# Altium schematic symbol library SOM.SchLib: 10 symbols
Pins are listed as number, name and electrical type; pins without a type are passive.

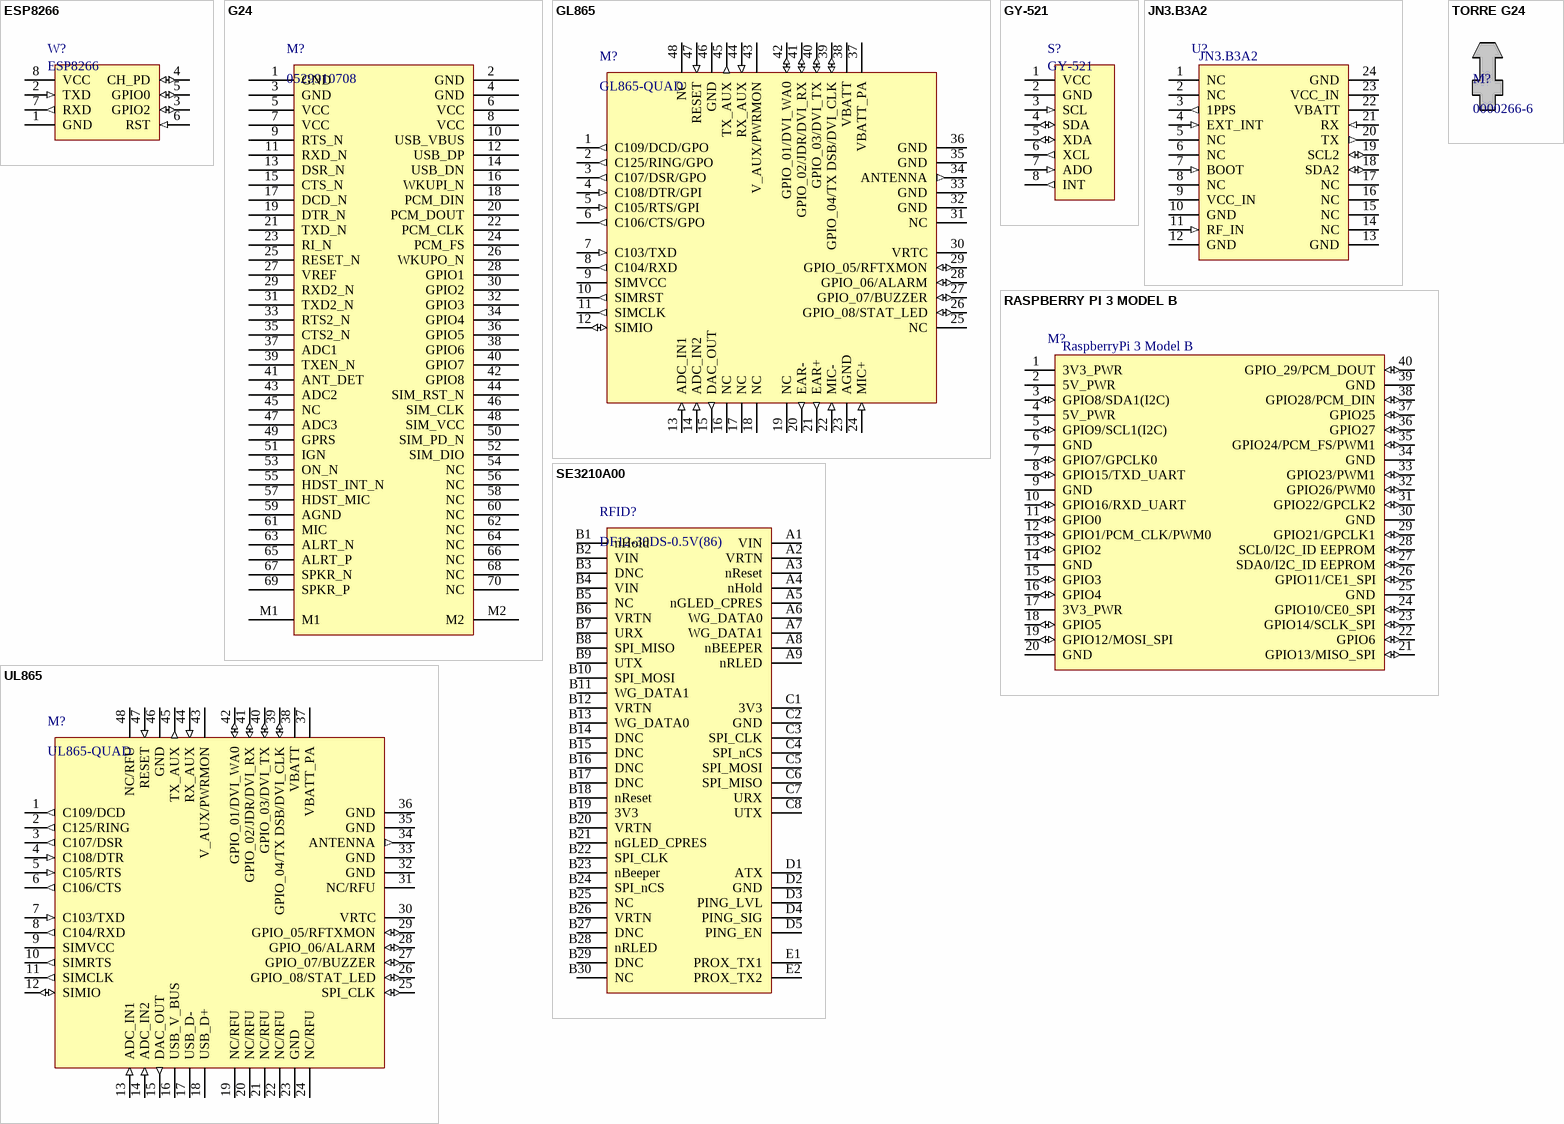
[diagram p0: symbols ESP8266 to UL865]

## ESP8266
designator W?
WiFi Module; Manufacturer: Espressif; Mount Type: PTH; Value: ESP8266; Supplier 1: Digi-Key; Supplier Part Number 1: 1597-1145-ND
footprint ESP8206 (WiFi Module)
pins: 1 GND (power), 2 TXD (in), 3 GPIO2 (io), 4 CH_PD (io), 5 GPIO0 (io), 6 RST (in), 7 RXD (out), 8 VCC (power)

## G24
designator M?, comment 0529910708
MODEM TELIT GSM - CONN RECEPT 70POS 3MM SMD .5MM; Manufacturer: Molex Inc; Mount Type: SMD; Supplier Part Number 1: Itech; Supplier 1: *
footprint G24
pins: 1 GND, 2 GND, 3 GND, 4 GND, 5 VCC, 6 VCC, 7 VCC, 8 VCC, 9 RTS_N, 10 USB_VBUS, 11 RXD_N, 12 USB_DP, 13 DSR_N, 14 USB_DN, 15 CTS_N, 16 WKUPI_N, 17 DCD_N, 18 PCM_DIN, 19 DTR_N, 20 PCM_DOUT, 21 TXD_N, 22 PCM_CLK, 23 RI_N, 24 PCM_FS, 25 RESET_N, 26 WKUPO_N, 27 VREF, 28 GPIO1, 29 RXD2_N, 30 GPIO2, 31 TXD2_N, 32 GPIO3, 33 RTS2_N, 34 GPIO4, 35 CTS2_N, 36 GPIO5, 37 ADC1, 38 GPIO6, 39 TXEN_N, 40 GPIO7, 41 ANT_DET, 42 GPIO8, 43 ADC2, 44 SIM_RST_N, 45 NC, 46 SIM_CLK, 47 ADC3, 48 SIM_VCC, 49 GPRS, 50 SIM_PD_N, 51 IGN, 52 SIM_DIO, 53 ON_N, 54 NC, 55 HDST_INT_N, 56 NC, 57 HDST_MIC, 58 NC, 59 AGND, 60 NC, 61 MIC, 62 NC, 63 ALRT_N, 64 NC, 65 ALRT_P, 66 NC, 67 SPKR_N, 68 NC, 69 SPKR_P, 70 NC, M1, M2

## GL865
designator M?, comment GL865-QUAD
MODEM TELIT GSM; Mount Type: SMD; Manufacturer: Telit; Supplier 1: Itech; Supplier Part Number 1: *
footprint GL865
footprint GL865
pins: 1 C109/DCD/GPO (out), 2 C125/RING/GPO (out), 3 C107/DSR/GPO (out), 4 C108/DTR/GPI (in), 5 C105/RTS/GPI (in), 6 C106/CTS/GPO (out), 7 C103/TXD (in), 8 C104/RXD (out), 9 SIMVCC, 10 SIMRST (out), 11 SIMCLK (out), 12 SIMIO (io), 13 ADC_IN1 (in), 14 ADC_IN2 (in), 15 DAC_OUT (out), 16 NC, 17 NC, 18 NC, 19 NC, 20 EAR- (out), 21 EAR+ (out), 22 MIC- (in), 23 AGND (power), 24 MIC+ (in), 25 NC, 26 GPIO_08/STAT_LED (io), 27 GPIO_07/BUZZER (io), 28 GPIO_06/ALARM (io), 29 GPIO_05/RFTXMON (io), 30 VRTC (power), 31 NC, 32 GND (power), 33 GND (power), 34 ANTENNA (out), 35 GND (power), 36 GND (power), 37 VBATT_PA (power), 38 VBATT (power), 39 GPIO_04/TX DSB/DVI_CLK (io), 40 GPIO_03/DVI_TX (io), 41 GPIO_02/JDR/DVI_RX (io), 42 GPIO_01/DVI_WA0 (io), 43 V_AUX/PWRMON, 44 RX_AUX (in), 45 TX_AUX (out), 46 GND (power), 47 RESET (in), 48 NC

## GY-521
designator S?
Accelerometer Gyroscope Module; Manufacturer: *; Mount Type: PTH; Value: GY-521
footprint GY-521 (GYRO/ACCEL Module)
pins: 1 VCC (power), 2 GND (power), 3 SCL (in), 4 SDA (io), 5 XDA (io), 6 XCL (out), 7 ADO (in), 8 INT (out)

## JN3.B3A2
designator U?
IC GPS; Manufacturer: Telit; Category: *; Mount Type: SMD; Supplier 1: Itech; Supplier Part Number 1: *; Value: JN3.B3A2
footprint JN3
pins: 1 NC, 2 NC, 3 1PPS (out), 4 EXT_INT (in), 5 NC, 6 NC, 7 BOOT (in), 8 NC, 9 VCC_IN, 10 GND (power), 11 RF_IN (in), 12 GND (power), 13 GND (power), 14 NC, 15 NC, 16 NC, 17 NC, 18 SDA2 (io), 19 SCL2 (io), 20 TX (out), 21 RX (in), 22 VBATT (power), 23 VCC_IN (power), 24 GND (power)

## RASPBERRY PI 3 MODEL B
designator M?, comment value RaspberryPi 3 Model B  (hidden comment: SFH11-PBPC-D20-ST-BK)
40 Position Header Connector 0.100" (2.54mm) Through Hole Gold; Manufacturer: Sullins Connector Solutions; Mount Type: PTH; Supplier 1: Digi-Key; Supplier Part Number 1: S9200-ND
footprint RaspBerry Pi 3 (Connector for RaspBerry Pi 3)
pins: 1 3V3_PWR (power), 2 5V_PWR (power), 3 GPIO8/SDA1(I2C) (io), 4 5V_PWR (power), 5 GPIO9/SCL1(I2C) (io), 6 GND (power), 7 GPIO7/GPCLK0 (io), 8 GPIO15/TXD_UART (io), 9 GND (power), 10 GPIO16/RXD_UART (io), 11 GPIO0 (io), 12 GPIO1/PCM_CLK/PWM0 (io), 13 GPIO2 (io), 14 GND (power), 15 GPIO3 (io), 16 GPIO4 (io), 17 3V3_PWR (power), 18 GPIO5 (io), 19 GPIO12/MOSI_SPI (io), 20 GND (power), 21 GPIO13/MISO_SPI (io), 22 GPIO6 (io), 23 GPIO14/SCLK_SPI (io), 24 GPIO10/CE0_SPI (io), 25 GND (power), 26 GPIO11/CE1_SPI (io), 27 SDA0/I2C_ID EEPROM (io), 28 SCL0/I2C_ID EEPROM (io), 29 GPIO21/GPCLK1 (io), 30 GND (power), 31 GPIO22/GPCLK2 (io), 32 GPIO26/PWM0 (io), 33 GPIO23/PWM1 (io), 34 GND (power), 35 GPIO24/PCM_FS/PWM1 (io), 36 GPIO27 (io), 37 GPIO25 (io), 38 GPIO28/PCM_DIN (io), 39 GND (power), 40 GPIO_29/PCM_DOUT (io)

## SE3210A00
designator RFID?, comment DF12-30DS-0.5V(86)
HID iCLASS SE RFID Reader Module; Manufacturer: Hirose Electric Co Ltd; Value: DF12-30DS-0.5V(86); Supplier 1: Newark; Supplier 2: Farnell; Supplier 3: Digi-Key; Supplier 4: Mouser; Supplier Part Number 1: 34M5524; Supplier Part Number 2: 1324622; Supplier Part Number 3: H5215CT-ND; Supplier Part Number 4: 798-DF1230DS05V48
footprint SE3210A
pins: A1 VIN, A2 VRTN, A3 nReset, A4 nHold, A5 nGLED_CPRES, A6 WG_DATA0, A7 WG_DATA1, A8 nBEEPER, A9 nRLED, B1 nHold, B2 VIN, B3 DNC, B4 VIN, B5 NC, B6 VRTN, B7 URX, B8 SPI_MISO, B9 UTX, B10 SPI_MOSI, B11 WG_DATA1, B12 VRTN, B13 WG_DATA0, B14 DNC, B15 DNC, B16 DNC, B17 DNC, B18 nReset, B19 3V3, B20 VRTN, B21 nGLED_CPRES, B22 SPI_CLK, B23 nBeeper, B24 SPI_nCS, B25 NC, B26 VRTN, B27 DNC, B28 nRLED, B29 DNC, B30 NC, C1 3V3, C2 GND, C3 SPI_CLK, C4 SPI_nCS, C5 SPI_MOSI, C6 SPI_MISO, C7 URX, C8 UTX, D1 ATX, D2 GND, D3 PING_LVL, D4 PING_SIG, D5 PING_EN, E1 PROX_TX1, E2 PROX_TX2

## TORRE G24
designator M?, comment 0000266-6
G24 SPACER; Manufacturer: Itech; Mount Type: PTH; Supplier 1: Itech; Supplier Part Number 1: *

## UL865
designator M?, comment UL865-QUAD
MODEM TELIT GSM 3G; Mount Type: SMD; Manufacturer: Telit; Supplier 1: Itech; Supplier Part Number 1: *
footprint GL865
pins: 1 C109/DCD (out), 2 C125/RING (out), 3 C107/DSR (out), 4 C108/DTR (in), 5 C105/RTS (in), 6 C106/CTS (out), 7 C103/TXD (in), 8 C104/RXD (out), 9 SIMVCC (power), 10 SIMRTS (out), 11 SIMCLK (out), 12 SIMIO (io), 13 ADC_IN1 (in), 14 ADC_IN2 (in), 15 DAC_OUT (out), 16 USB_V_BUS (power), 17 USB_D-, 18 USB_D+, 19 NC/RFU, 20 NC/RFU, 21 NC/RFU, 22 NC/RFU, 23 GND (power), 24 NC/RFU, 25 SPI_CLK (io), 26 GPIO_08/STAT_LED (io), 27 GPIO_07/BUZZER (io), 28 GPIO_06/ALARM (io), 29 GPIO_05/RFTXMON (io), 30 VRTC (power), 31 NC/RFU, 32 GND (power), 33 GND (power), 34 ANTENNA (out), 35 GND (power), 36 GND (power), 37 VBATT_PA (power), 38 VBATT (power), 39 GPIO_04/TX DSB/DVI_CLK (io), 40 GPIO_03/DVI_TX (io), 41 GPIO_02/JDR/DVI_RX (io), 42 GPIO_01/DVI_WA0 (io), 43 V_AUX/PWRMON, 44 RX_AUX (in), 45 TX_AUX (out), 46 GND (power), 47 RESET (in), 48 NC/RFU

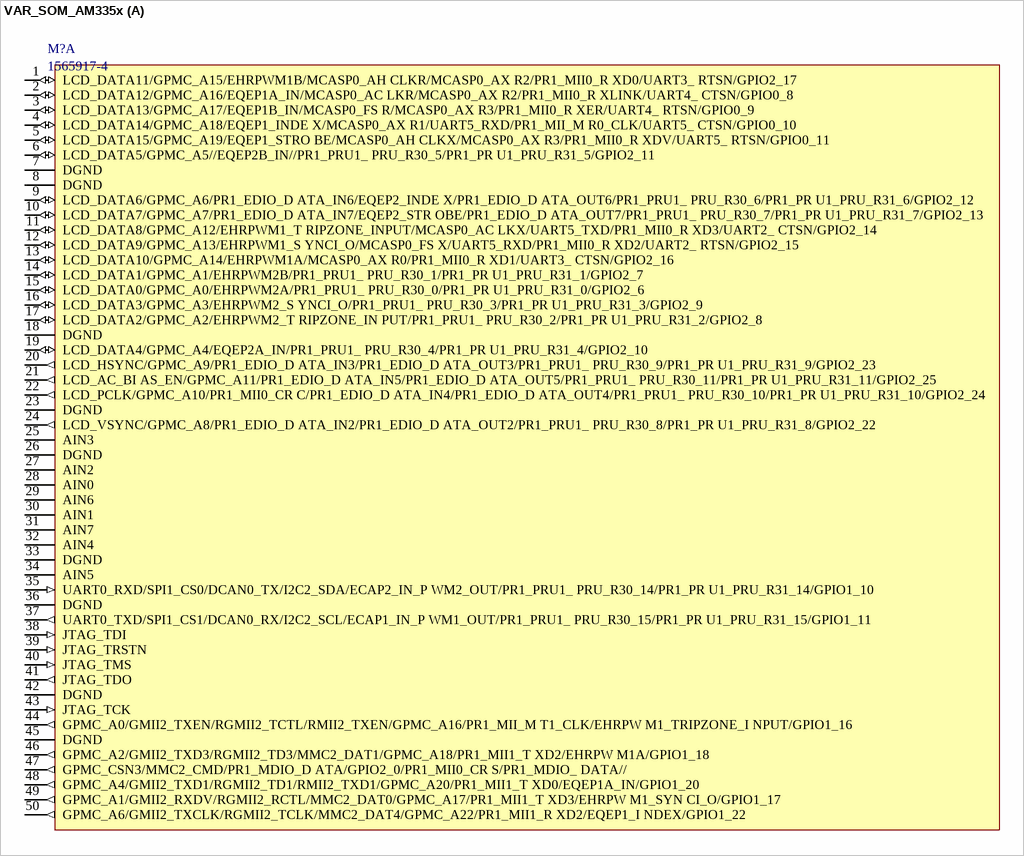
[diagram p1: symbol VAR_SOM_AM335x]

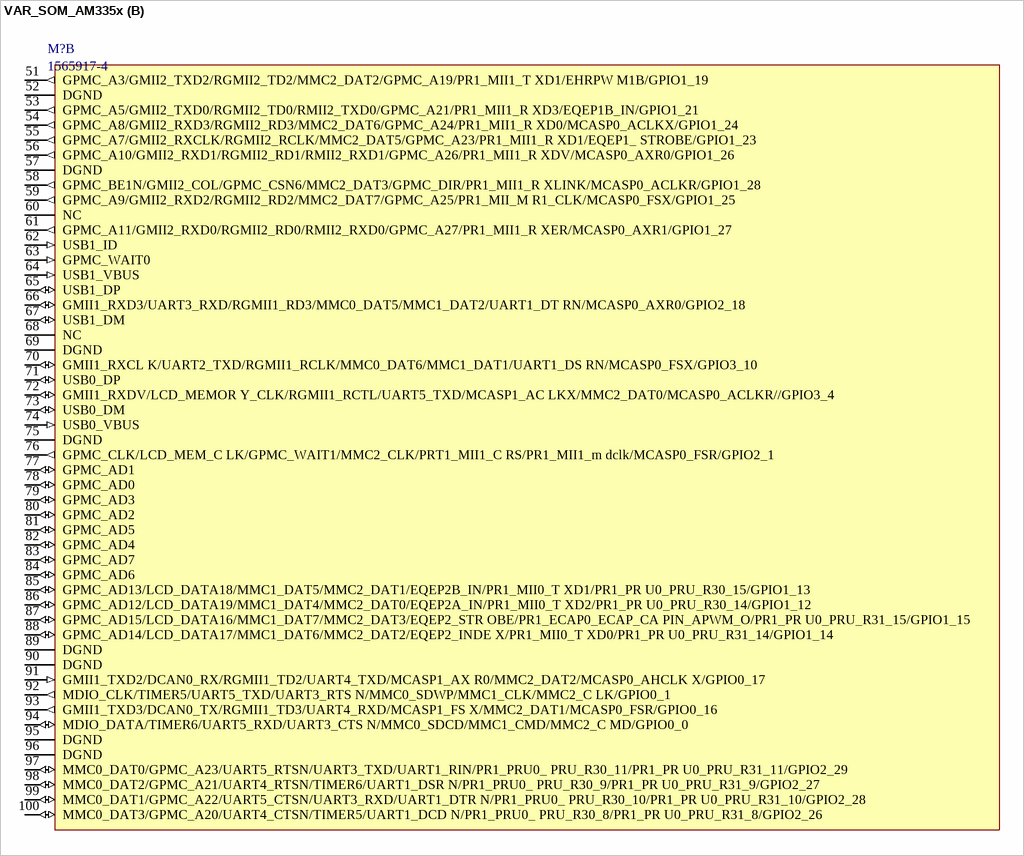
[diagram p2: symbol VAR_SOM_AM335x]

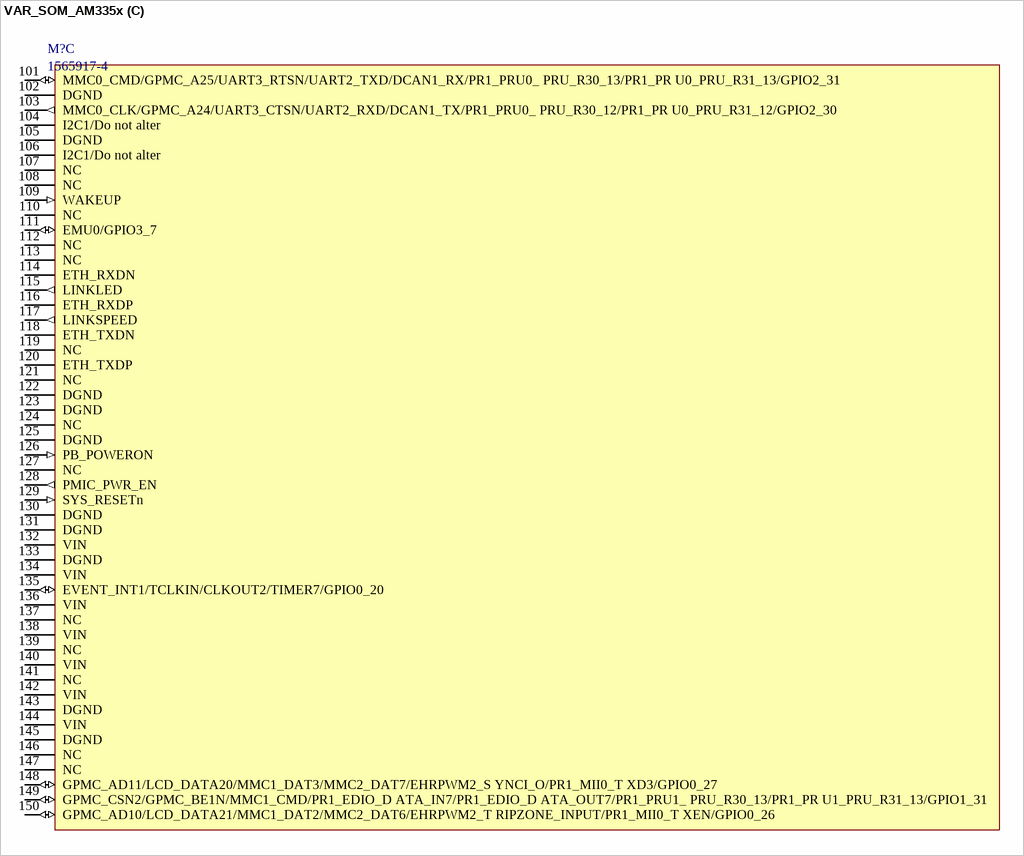
[diagram p3: symbol VAR_SOM_AM335x]

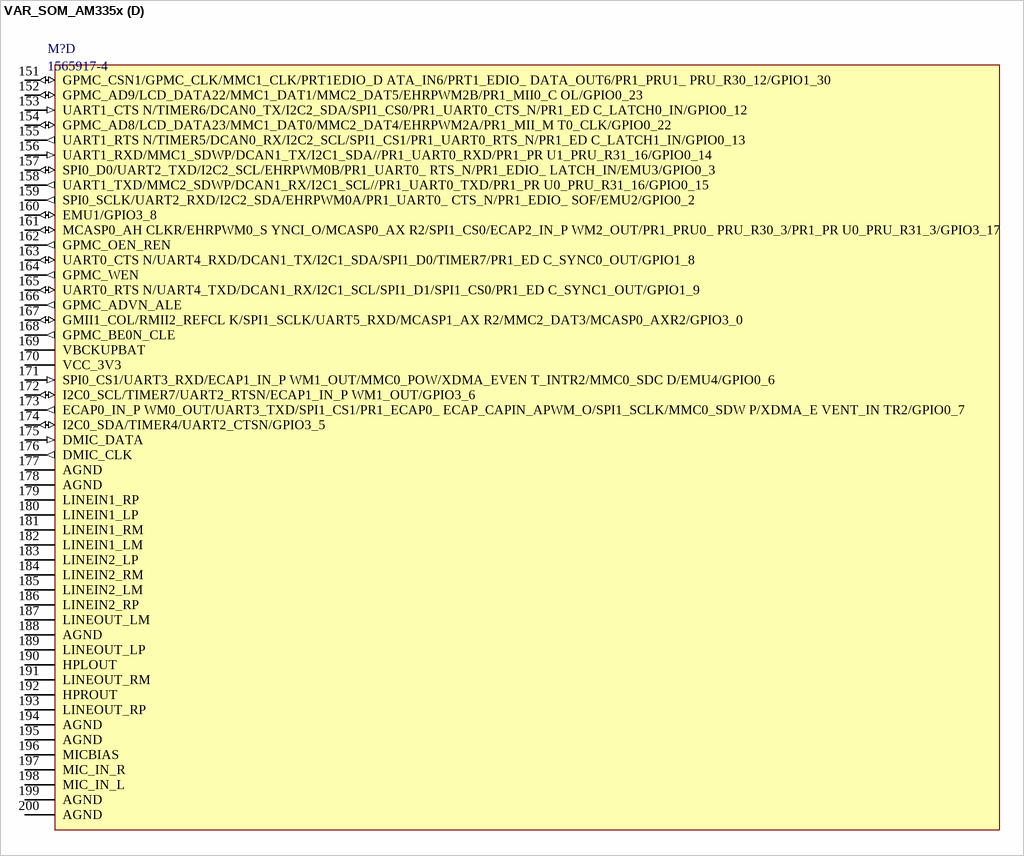
[diagram p4: symbol VAR_SOM_AM335x]

## VAR_SOM_AM335x
designator M?, comment 1565917-4
VAR_SOM_AM335x - CONN SKT SODIMM 200POS R/A SMD; Manufacturer: TE Connectivity AMP Connectors; Mount Type: SMD; Value: 1565917-4; Supplier 1: Arrow; Supplier Part Number 1: 1565917-4**MULT1; Supplier 2: Farnell; Supplier Part Number 2: 2112525; Supplier 3: Newark; Supplier Part Number 3: 08P0616; Supplier 4: Mouser; Supplier Part Number 4: 571-1565917-4; Supplier 5: Digi-Key; Supplier Part Number 5: A97498CT-ND
footprint DDR1-DDR2 SODIMM SOCKET (TE CONNECTIVITY - 1565917-4)
part A pins: 1 LCD_DATA11/GPMC_A15/EHRPWM1B/MCASP0_AH CLKR/MCASP0_AX R2/PR1_MII0_R XD0/UART3_ RTSN/GPIO2_17 (io), 2 LCD_DATA12/GPMC_A16/EQEP1A_IN/MCASP0_AC LKR/MCASP0_AX R2/PR1_MII0_R XLINK/UART4_ CTSN/GPIO0_8 (io), 3 LCD_DATA13/GPMC_A17/EQEP1B_IN/MCASP0_FS R/MCASP0_AX R3/PR1_MII0_R XER/UART4_ RTSN/GPIO0_9 (io), 4 LCD_DATA14/GPMC_A18/EQEP1_INDE X/MCASP0_AX R1/UART5_RXD/PR1_MII_M R0_CLK/UART5_ CTSN/GPIO0_10 (io), 5 LCD_DATA15/GPMC_A19/EQEP1_STRO BE/MCASP0_AH CLKX/MCASP0_AX R3/PR1_MII0_R XDV/UART5_ RTSN/GPIO0_11 (io), 6 LCD_DATA5/GPMC_A5//EQEP2B_IN//PR1_PRU1_ PRU_R30_5/PR1_PR U1_PRU_R31_5/GPIO2_11 (io), 7 DGND (power), 8 DGND (power), 9 LCD_DATA6/GPMC_A6/PR1_EDIO_D ATA_IN6/EQEP2_INDE X/PR1_EDIO_D ATA_OUT6/PR1_PRU1_ PRU_R30_6/PR1_PR U1_PRU_R31_6/GPIO2_12 (io), 10 LCD_DATA7/GPMC_A7/PR1_EDIO_D ATA_IN7/EQEP2_STR OBE/PR1_EDIO_D ATA_OUT7/PR1_PRU1_ PRU_R30_7/PR1_PR U1_PRU_R31_7/GPIO2_13 (io), 11 LCD_DATA8/GPMC_A12/EHRPWM1_T RIPZONE_INPUT/MCASP0_AC LKX/UART5_TXD/PR1_MII0_R XD3/UART2_ CTSN/GPIO2_14 (io), 12 LCD_DATA9/GPMC_A13/EHRPWM1_S YNCI_O/MCASP0_FS X/UART5_RXD/PR1_MII0_R XD2/UART2_ RTSN/GPIO2_15 (io), 13 LCD_DATA10/GPMC_A14/EHRPWM1A/MCASP0_AX R0/PR1_MII0_R XD1/UART3_ CTSN/GPIO2_16 (io), 14 LCD_DATA1/GPMC_A1/EHRPWM2B/PR1_PRU1_ PRU_R30_1/PR1_PR U1_PRU_R31_1/GPIO2_7 (io), 15 LCD_DATA0/GPMC_A0/EHRPWM2A/PR1_PRU1_ PRU_R30_0/PR1_PR U1_PRU_R31_0/GPIO2_6 (io), 16 LCD_DATA3/GPMC_A3/EHRPWM2_S YNCI_O/PR1_PRU1_ PRU_R30_3/PR1_PR U1_PRU_R31_3/GPIO2_9 (io), 17 LCD_DATA2/GPMC_A2/EHRPWM2_T RIPZONE_IN PUT/PR1_PRU1_ PRU_R30_2/PR1_PR U1_PRU_R31_2/GPIO2_8 (io), 18 DGND (power), 19 LCD_DATA4/GPMC_A4/EQEP2A_IN/PR1_PRU1_ PRU_R30_4/PR1_PR U1_PRU_R31_4/GPIO2_10 (io), 20 LCD_HSYNC/GPMC_A9/PR1_EDIO_D ATA_IN3/PR1_EDIO_D ATA_OUT3/PR1_PRU1_ PRU_R30_9/PR1_PR U1_PRU_R31_9/GPIO2_23 (out), 21 LCD_AC_BI AS_EN/GPMC_A11/PR1_EDIO_D ATA_IN5/PR1_EDIO_D ATA_OUT5/PR1_PRU1_ PRU_R30_11/PR1_PR U1_PRU_R31_11/GPIO2_25 (out), 22 LCD_PCLK/GPMC_A10/PR1_MII0_CR C/PR1_EDIO_D ATA_IN4/PR1_EDIO_D ATA_OUT4/PR1_PRU1_ PRU_R30_10/PR1_PR U1_PRU_R31_10/GPIO2_24 (out), 23 DGND (power), 24 LCD_VSYNC/GPMC_A8/PR1_EDIO_D ATA_IN2/PR1_EDIO_D ATA_OUT2/PR1_PRU1_ PRU_R30_8/PR1_PR U1_PRU_R31_8/GPIO2_22 (out), 25 AIN3, 26 DGND (power), 27 AIN2, 28 AIN0, 29 AIN6, 30 AIN1, 31 AIN7, 32 AIN4, 33 DGND (power), 34 AIN5, 35 UART0_RXD/SPI1_CS0/DCAN0_TX/I2C2_SDA/ECAP2_IN_P WM2_OUT/PR1_PRU1_ PRU_R30_14/PR1_PR U1_PRU_R31_14/GPIO1_10 (in), 36 DGND (power), 37 UART0_TXD/SPI1_CS1/DCAN0_RX/I2C2_SCL/ECAP1_IN_P WM1_OUT/PR1_PRU1_ PRU_R30_15/PR1_PR U1_PRU_R31_15/GPIO1_11 (out), 38 JTAG_TDI (in), 39 JTAG_TRSTN (in), 40 JTAG_TMS (in), 41 JTAG_TDO (out), 42 DGND (power), 43 JTAG_TCK (in), 44 GPMC_A0/GMII2_TXEN/RGMII2_TCTL/RMII2_TXEN/GPMC_A16/PR1_MII_M T1_CLK/EHRPW M1_TRIPZONE_I NPUT/GPIO1_16 (out), 45 DGND (power), 46 GPMC_A2/GMII2_TXD3/RGMII2_TD3/MMC2_DAT1/GPMC_A18/PR1_MII1_T XD2/EHRPW M1A/GPIO1_18 (out), 47 GPMC_CSN3/MMC2_CMD/PR1_MDIO_D ATA/GPIO2_0/PR1_MII0_CR S/PR1_MDIO_ DATA// (out), 48 GPMC_A4/GMII2_TXD1/RGMII2_TD1/RMII2_TXD1/GPMC_A20/PR1_MII1_T XD0/EQEP1A_IN/GPIO1_20 (out), 49 GPMC_A1/GMII2_RXDV/RGMII2_RCTL/MMC2_DAT0/GPMC_A17/PR1_MII1_T XD3/EHRPW M1_SYN CI_O/GPIO1_17 (out), 50 GPMC_A6/GMII2_TXCLK/RGMII2_TCLK/MMC2_DAT4/GPMC_A22/PR1_MII1_R XD2/EQEP1_I NDEX/GPIO1_22 (out)
part B pins: 51 GPMC_A3/GMII2_TXD2/RGMII2_TD2/MMC2_DAT2/GPMC_A19/PR1_MII1_T XD1/EHRPW M1B/GPIO1_19 (out), 52 DGND (power), 53 GPMC_A5/GMII2_TXD0/RGMII2_TD0/RMII2_TXD0/GPMC_A21/PR1_MII1_R XD3/EQEP1B_IN/GPIO1_21 (out), 54 GPMC_A8/GMII2_RXD3/RGMII2_RD3/MMC2_DAT6/GPMC_A24/PR1_MII1_R XD0/MCASP0_ACLKX/GPIO1_24 (out), 55 GPMC_A7/GMII2_RXCLK/RGMII2_RCLK/MMC2_DAT5/GPMC_A23/PR1_MII1_R XD1/EQEP1_ STROBE/GPIO1_23 (out), 56 GPMC_A10/GMII2_RXD1/RGMII2_RD1/RMII2_RXD1/GPMC_A26/PR1_MII1_R XDV/MCASP0_AXR0/GPIO1_26 (out), 57 DGND (power), 58 GPMC_BE1N/GMII2_COL/GPMC_CSN6/MMC2_DAT3/GPMC_DIR/PR1_MII1_R XLINK/MCASP0_ACLKR/GPIO1_28 (out), 59 GPMC_A9/GMII2_RXD2/RGMII2_RD2/MMC2_DAT7/GPMC_A25/PR1_MII_M R1_CLK/MCASP0_FSX/GPIO1_25 (out), 60 NC, 61 GPMC_A11/GMII2_RXD0/RGMII2_RD0/RMII2_RXD0/GPMC_A27/PR1_MII1_R XER/MCASP0_AXR1/GPIO1_27 (out), 62 USB1_ID (in), 63 GPMC_WAIT0 (in), 64 USB1_VBUS (in), 65 USB1_DP (io), 66 GMII1_RXD3/UART3_RXD/RGMII1_RD3/MMC0_DAT5/MMC1_DAT2/UART1_DT RN/MCASP0_AXR0/GPIO2_18 (io), 67 USB1_DM (io), 68 NC, 69 DGND (power), 70 GMII1_RXCL K/UART2_TXD/RGMII1_RCLK/MMC0_DAT6/MMC1_DAT1/UART1_DS RN/MCASP0_FSX/GPIO3_10 (io), 71 USB0_DP (io), 72 GMII1_RXDV/LCD_MEMOR Y_CLK/RGMII1_RCTL/UART5_TXD/MCASP1_AC LKX/MMC2_DAT0/MCASP0_ACLKR//GPIO3_4 (io), 73 USB0_DM (io), 74 USB0_VBUS (in), 75 DGND (power), 76 GPMC_CLK/LCD_MEM_C LK/GPMC_WAIT1/MMC2_CLK/PRT1_MII1_C RS/PR1_MII1_m dclk/MCASP0_FSR/GPIO2_1 (out), 77 GPMC_AD1 (io), 78 GPMC_AD0 (io), 79 GPMC_AD3 (io), 80 GPMC_AD2 (io), 81 GPMC_AD5 (io), 82 GPMC_AD4 (io), 83 GPMC_AD7 (io), 84 GPMC_AD6 (io), 85 GPMC_AD13/LCD_DATA18/MMC1_DAT5/MMC2_DAT1/EQEP2B_IN/PR1_MII0_T XD1/PR1_PR U0_PRU_R30_15/GPIO1_13 (io), 86 GPMC_AD12/LCD_DATA19/MMC1_DAT4/MMC2_DAT0/EQEP2A_IN/PR1_MII0_T XD2/PR1_PR U0_PRU_R30_14/GPIO1_12 (io), 87 GPMC_AD15/LCD_DATA16/MMC1_DAT7/MMC2_DAT3/EQEP2_STR OBE/PR1_ECAP0_ECAP_CA PIN_APWM_O/PR1_PR U0_PRU_R31_15/GPIO1_15 (io), 88 GPMC_AD14/LCD_DATA17/MMC1_DAT6/MMC2_DAT2/EQEP2_INDE X/PR1_MII0_T XD0/PR1_PR U0_PRU_R31_14/GPIO1_14 (io), 89 DGND (power), 90 DGND (power), 91 GMII1_TXD2/DCAN0_RX/RGMII1_TD2/UART4_TXD/MCASP1_AX R0/MMC2_DAT2/MCASP0_AHCLK X/GPIO0_17 (in), 92 MDIO_CLK/TIMER5/UART5_TXD/UART3_RTS N/MMC0_SDWP/MMC1_CLK/MMC2_C LK/GPIO0_1 (out), 93 GMII1_TXD3/DCAN0_TX/RGMII1_TD3/UART4_RXD/MCASP1_FS X/MMC2_DAT1/MCASP0_FSR/GPIO0_16 (out), 94 MDIO_DATA/TIMER6/UART5_RXD/UART3_CTS N/MMC0_SDCD/MMC1_CMD/MMC2_C MD/GPIO0_0 (io), 95 DGND (power), 96 DGND (power), 97 MMC0_DAT0/GPMC_A23/UART5_RTSN/UART3_TXD/UART1_RIN/PR1_PRU0_ PRU_R30_11/PR1_PR U0_PRU_R31_11/GPIO2_29 (io), 98 MMC0_DAT2/GPMC_A21/UART4_RTSN/TIMER6/UART1_DSR N/PR1_PRU0_ PRU_R30_9/PR1_PR U0_PRU_R31_9/GPIO2_27 (io), 99 MMC0_DAT1/GPMC_A22/UART5_CTSN/UART3_RXD/UART1_DTR N/PR1_PRU0_ PRU_R30_10/PR1_PR U0_PRU_R31_10/GPIO2_28 (io), 100 MMC0_DAT3/GPMC_A20/UART4_CTSN/TIMER5/UART1_DCD N/PR1_PRU0_ PRU_R30_8/PR1_PR U0_PRU_R31_8/GPIO2_26 (io)
part C pins: 101 MMC0_CMD/GPMC_A25/UART3_RTSN/UART2_TXD/DCAN1_RX/PR1_PRU0_ PRU_R30_13/PR1_PR U0_PRU_R31_13/GPIO2_31 (io), 102 DGND (power), 103 MMC0_CLK/GPMC_A24/UART3_CTSN/UART2_RXD/DCAN1_TX/PR1_PRU0_ PRU_R30_12/PR1_PR U0_PRU_R31_12/GPIO2_30 (out), 104 I2C1/Do not alter, 105 DGND (power), 106 I2C1/Do not alter, 107 NC, 108 NC, 109 WAKEUP (in), 110 NC, 111 EMU0/GPIO3_7 (io), 112 NC, 113 NC, 114 ETH_RXDN, 115 LINKLED (out), 116 ETH_RXDP, 117 LINKSPEED (out), 118 ETH_TXDN, 119 NC, 120 ETH_TXDP, 121 NC, 122 DGND (power), 123 DGND (power), 124 NC, 125 DGND (power), 126 PB_POWERON (in), 127 NC, 128 PMIC_PWR_EN (out), 129 SYS_RESETn (in), 130 DGND (power), 131 DGND (power), 132 VIN (power), 133 DGND (power), 134 VIN (power), 135 EVENT_INT1/TCLKIN/CLKOUT2/TIMER7/GPIO0_20 (io), 136 VIN (power), 137 NC, 138 VIN (power), 139 NC, 140 VIN (power), 141 NC, 142 VIN (power), 143 DGND (power), 144 VIN (power), 145 DGND (power), 146 NC, 147 NC, 148 GPMC_AD11/LCD_DATA20/MMC1_DAT3/MMC2_DAT7/EHRPWM2_S YNCI_O/PR1_MII0_T XD3/GPIO0_27 (io), 149 GPMC_CSN2/GPMC_BE1N/MMC1_CMD/PR1_EDIO_D ATA_IN7/PR1_EDIO_D ATA_OUT7/PR1_PRU1_ PRU_R30_13/PR1_PR U1_PRU_R31_13/GPIO1_31 (io), 150 GPMC_AD10/LCD_DATA21/MMC1_DAT2/MMC2_DAT6/EHRPWM2_T RIPZONE_INPUT/PR1_MII0_T XEN/GPIO0_26 (io)
part D pins: 151 GPMC_CSN1/GPMC_CLK/MMC1_CLK/PRT1EDIO_D ATA_IN6/PRT1_EDIO_ DATA_OUT6/PR1_PRU1_ PRU_R30_12/GPIO1_30 (io), 152 GPMC_AD9/LCD_DATA22/MMC1_DAT1/MMC2_DAT5/EHRPWM2B/PR1_MII0_C OL/GPIO0_23 (io), 153 UART1_CTS N/TIMER6/DCAN0_TX/I2C2_SDA/SPI1_CS0/PR1_UART0_CTS_N/PR1_ED C_LATCH0_IN/GPIO0_12 (in), 154 GPMC_AD8/LCD_DATA23/MMC1_DAT0/MMC2_DAT4/EHRPWM2A/PR1_MII_M T0_CLK/GPIO0_22 (io), 155 UART1_RTS N/TIMER5/DCAN0_RX/I2C2_SCL/SPI1_CS1/PR1_UART0_RTS_N/PR1_ED C_LATCH1_IN/GPIO0_13 (out), 156 UART1_RXD/MMC1_SDWP/DCAN1_TX/I2C1_SDA//PR1_UART0_RXD/PR1_PR U1_PRU_R31_16/GPIO0_14 (in), 157 SPI0_D0/UART2_TXD/I2C2_SCL/EHRPWM0B/PR1_UART0_ RTS_N/PR1_EDIO_ LATCH_IN/EMU3/GPIO0_3 (io), 158 UART1_TXD/MMC2_SDWP/DCAN1_RX/I2C1_SCL//PR1_UART0_TXD/PR1_PR U0_PRU_R31_16/GPIO0_15 (out), 159 SPI0_SCLK/UART2_RXD/I2C2_SDA/EHRPWM0A/PR1_UART0_ CTS_N/PR1_EDIO_ SOF/EMU2/GPIO0_2 (out), 160 EMU1/GPIO3_8 (io), 161 MCASP0_AH CLKR/EHRPWM0_S YNCI_O/MCASP0_AX R2/SPI1_CS0/ECAP2_IN_P WM2_OUT/PR1_PRU0_ PRU_R30_3/PR1_PR U0_PRU_R31_3/GPIO3_17 (io), 162 GPMC_OEN_REN (out), 163 UART0_CTS N/UART4_RXD/DCAN1_TX/I2C1_SDA/SPI1_D0/TIMER7/PR1_ED C_SYNC0_OUT/GPIO1_8 (io), 164 GPMC_WEN (out), 165 UART0_RTS N/UART4_TXD/DCAN1_RX/I2C1_SCL/SPI1_D1/SPI1_CS0/PR1_ED C_SYNC1_OUT/GPIO1_9 (io), 166 GPMC_ADVN_ALE (out), 167 GMII1_COL/RMII2_REFCL K/SPI1_SCLK/UART5_RXD/MCASP1_AX R2/MMC2_DAT3/MCASP0_AXR2/GPIO3_0 (io), 168 GPMC_BE0N_CLE (out), 169 VBCKUPBAT (power), 170 VCC_3V3 (power), 171 SPI0_CS1/UART3_RXD/ECAP1_IN_P WM1_OUT/MMC0_POW/XDMA_EVEN T_INTR2/MMC0_SDC D/EMU4/GPIO0_6 (in), 172 I2C0_SCL/TIMER7/UART2_RTSN/ECAP1_IN_P WM1_OUT/GPIO3_6 (io), 173 ECAP0_IN_P WM0_OUT/UART3_TXD/SPI1_CS1/PR1_ECAP0_ ECAP_CAPIN_APWM_O/SPI1_SCLK/MMC0_SDW P/XDMA_E VENT_IN TR2/GPIO0_7 (out), 174 I2C0_SDA/TIMER4/UART2_CTSN/GPIO3_5 (io), 175 DMIC_DATA (in), 176 DMIC_CLK (out), 177 AGND (power), 178 AGND (power), 179 LINEIN1_RP, 180 LINEIN1_LP, 181 LINEIN1_RM, 182 LINEIN1_LM, 183 LINEIN2_LP, 184 LINEIN2_RM, 185 LINEIN2_LM, 186 LINEIN2_RP, 187 LINEOUT_LM, 188 AGND (power), 189 LINEOUT_LP, 190 HPLOUT, 191 LINEOUT_RM, 192 HPROUT, 193 LINEOUT_RP, 194 AGND (power), 195 AGND (power), 196 MICBIAS, 197 MIC_IN_R, 198 MIC_IN_L, 199 AGND (power), 200 AGND (power)